# EAGLE library part MAX2655 (library Underwater-Camera-v2.0)
The MAX2654/MAX2655/MAX2656 high third-order intercept point (IP3), low-noise amplifiers (LNAs) are designed for applications in GPS, PCS, WLL, and satellite phone systems. The MAX2654/MAX2655/MAX2656 incorporate on-chip internal output matching to 50Ω, eliminating the need for external matching components. A shutdown feature in the MAX2654/MAX2655 reduces operating current to 0.1µA, eliminating the need for an external supply switch. The MAX2654 operates in the GPS frequency of 1575MHz with 15.1dB of gain, 1.5dB noise figure, and only consumes 5.8mA. The MAX2655 is designed with high-input IP3 to improve operation in cellular applications where the cellular power amplifier leaks into the GPS receiver. The MAX2656 is designed for PCS phone applications with 13.5dB of gain in high-gain mode and 0.8dB of gain in low-gain mode (selected by a logic control) and 1.9dB noise figure. The IP3 of MAX2655/MAX2656 is adjustable by a single external bias resistor (RBIAS), allowing supply current to be optimized for a specific application. The MAX2654/MAX2655/MAX2656 operate from +2.7V to +5.5V single supply and are available in the miniature 6-pin SC70 package
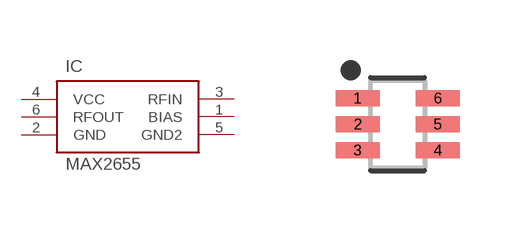
[diagram p11: symbol with the pads of SOP65P210X110-6; footprint SOP65P210X110-6]

Designator prefix IC

## MAX26556-TSSOP  [SOP65P210X110-6]
1  BIAS
2  GND
3  RFIN
4  VCC
5  GND2
6  RFOUT

## Footprint SOP65P210X110-6 (pad centres in mm)
6-SOP, 0.65 mm pitch, 2.10 mm span, 2.00 X 1.25 X 1.10 mm body 6-pin SOP package with 0.65 mm pitch, 2.10 mm span with body size 2.00 X 1.25 X 1.10 mm
smd 1.11 x 0.397: 1 -1,0.65; 2 -1,0; 3 -1,-0.65; 4 1,-0.65; 5 1,0; 6 1,0.65